# Altium integrated library RFM-0505S.IntLib: 1 symbol
Pins are listed as number, name and electrical type; pins without a type are passive.

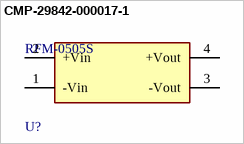
[diagram p0: symbol CMP-29842-000017-1]

## CMP-29842-000017-1
designator U?, comment RFM-0505S
DC DC CONVERTER 5V 1W; Height: 10mm; Width: 6mm; Max Output Voltage: 5V; Length: 11.5mm; Weight: 1.4g
footprint FP-RFM-0505S-MFG
pins: 1 -Vin (power), 2 +Vin (power), 3 -Vout (power), 4 +Vout (power)